# EAGLE library part MT41K256M16HA (library MT41K256M16HA)
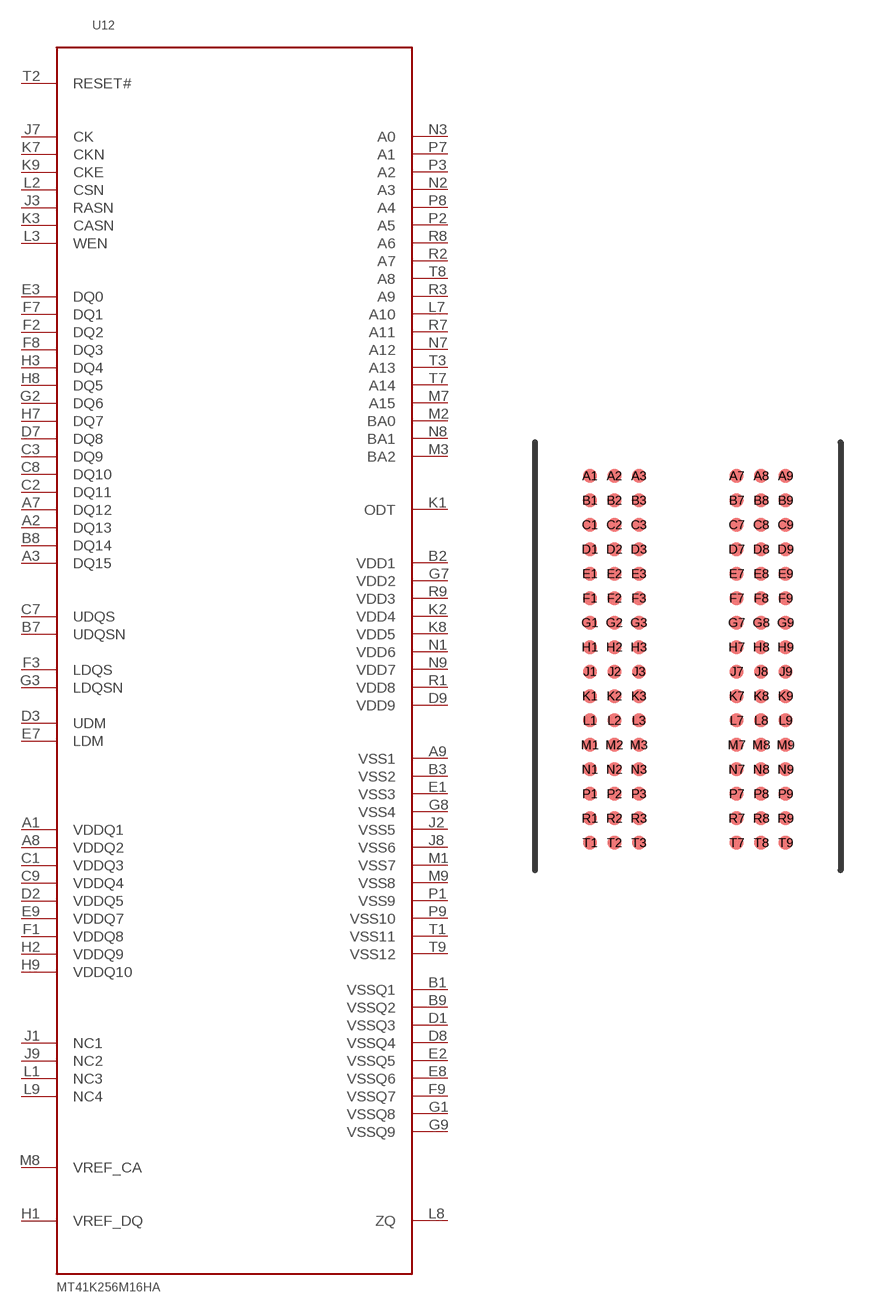
[diagram p0: symbol with the pads of MT41K256M16HA; footprint MT41K256M16HA]

Designator prefix -

## MT41K256M16HA  [MT41K256M16HA]
A1  VDDQ1
A2  DQ13
A3  DQ15
A7  DQ12
A8  VDDQ2
A9  VSS1
B1  VSSQ1
B2  VDD1
B3  VSS2
B7  UDQSN
B8  DQ14
B9  VSSQ2
C1  VDDQ3
C2  DQ11
C3  DQ9
C7  UDQS
C8  DQ10
C9  VDDQ4
D1  VSSQ3
D2  VDDQ5
D3  UDM
D7  DQ8
D8  VSSQ4
D9  VDD9
E1  VSS3
E2  VSSQ5
E3  DQ0
E7  LDM
E8  VSSQ6
E9  VDDQ7
F1  VDDQ8
F2  DQ2
F3  LDQS
F7  DQ1
F8  DQ3
F9  VSSQ7
G1  VSSQ8
G2  DQ6
G3  LDQSN
G7  VDD2
G8  VSS4
G9  VSSQ9
H1  VREF_DQ
H2  VDDQ9
H3  DQ4
H7  DQ7
H8  DQ5
H9  VDDQ10
J1  NC1
J2  VSS5
J3  RASN
J7  CK
J8  VSS6
J9  NC2
K1  ODT
K2  VDD4
K3  CASN
K7  CKN
K8  VDD5
K9  CKE
L1  NC3
L2  CSN
L3  WEN
L7  A10
L8  ZQ
L9  NC4
M1  VSS7
M2  BA0
M3  BA2
M7  A15
M8  VREF_CA
M9  VSS8
N1  VDD6
N2  A3
N3  A0
N7  A12
N8  BA1
N9  VDD7
P1  VSS9
P2  A5
P3  A2
P7  A1
P8  A4
P9  VSS10
R1  VDD8
R2  A7
R3  A9
R7  A11
R8  A6
R9  VDD3
T1  VSS11
T2  RESET#
T3  A13
T7  A14
T8  A8
T9  VSS12

## Footprint MT41K256M16HA (pad centres in mm)
smd 0.45 x 0.45: A1 -3.2,6; A2 -2.4,6; A3 -1.6,6; A7 1.6,6; A8 2.4,6; A9 3.2,6; B1 -3.2,5.2; B2 -2.4,5.2; B3 -1.6,5.2; B7 1.6,5.2; B8 2.4,5.2; B9 3.2,5.2; C1 -3.2,4.4; C2 -2.4,4.4; C3 -1.6,4.4; C7 1.6,4.4; C8 2.4,4.4; C9 3.2,4.4; D1 -3.2,3.6; D2 -2.4,3.6; D3 -1.6,3.6; D7 1.6,3.6; D8 2.4,3.6; D9 3.2,3.6; E1 -3.2,2.8; E2 -2.4,2.8; E3 -1.6,2.8; E7 1.6,2.8; E8 2.4,2.8; E9 3.2,2.8; F1 -3.2,2; F2 -2.4,2; F3 -1.6,2; F7 1.6,2; F8 2.4,2; F9 3.2,2; G1 -3.2,1.2; G2 -2.4,1.2; G3 -1.6,1.2; G7 1.6,1.2; G8 2.4,1.2; G9 3.2,1.2; H1 -3.2,0.4; H2 -2.4,0.4; H3 -1.6,0.4; H7 1.6,0.4; H8 2.4,0.4; H9 3.2,0.4; J1 -3.2,-0.4; J2 -2.4,-0.4; J3 -1.6,-0.4; J7 1.6,-0.4; J8 2.4,-0.4; J9 3.2,-0.4; K1 -3.2,-1.2; K2 -2.4,-1.2; K3 -1.6,-1.2; K7 1.6,-1.2; K8 2.4,-1.2; K9 3.2,-1.2; L1 -3.2,-2; L2 -2.4,-2; L3 -1.6,-2; L7 1.6,-2; L8 2.4,-2; L9 3.2,-2; M1 -3.2,-2.8; M2 -2.4,-2.8; M3 -1.6,-2.8; M7 1.6,-2.8; M8 2.4,-2.8; M9 3.2,-2.8; N1 -3.2,-3.6; N2 -2.4,-3.6; N3 -1.6,-3.6; N7 1.6,-3.6; N8 2.4,-3.6; N9 3.2,-3.6; P1 -3.2,-4.4; P2 -2.4,-4.4; P3 -1.6,-4.4; P7 1.6,-4.4; P8 2.4,-4.4; P9 3.2,-4.4; R1 -3.2,-5.2; R2 -2.4,-5.2; R3 -1.6,-5.2; R7 1.6,-5.2; R8 2.4,-5.2; R9 3.2,-5.2; T1 -3.2,-6; T2 -2.4,-6; T3 -1.6,-6; T7 1.6,-6; T8 2.4,-6; T9 3.2,-6